# Altium schematic symbol library CN 15POS JST ZE SMT.Schlib: 1 symbol
Pins are listed as number, name and electrical type; pins without a type are passive.

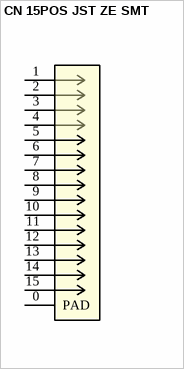
[diagram p0: symbol CN 15POS JST ZE SMT]

## CN 15POS JST ZE SMT
designator J?, comment BM15B-ZESS-TBT(LF)(SN)
CONN HEADER VERT SMD 15POS ZE
footprint JST ZE SMT 15POS (15 POS HDR JST ZE)
pins: 0 PAD, 1, 2, 3, 4, 5, 6, 7, 8, 9, 10, 11, 12, 13, 14, 15